# EAGLE library part TSW-128-02-S-D (library con-samtec)
THROUGH-HOLE .025" SQ POST HEADER Source: Samtec TSW.pdf
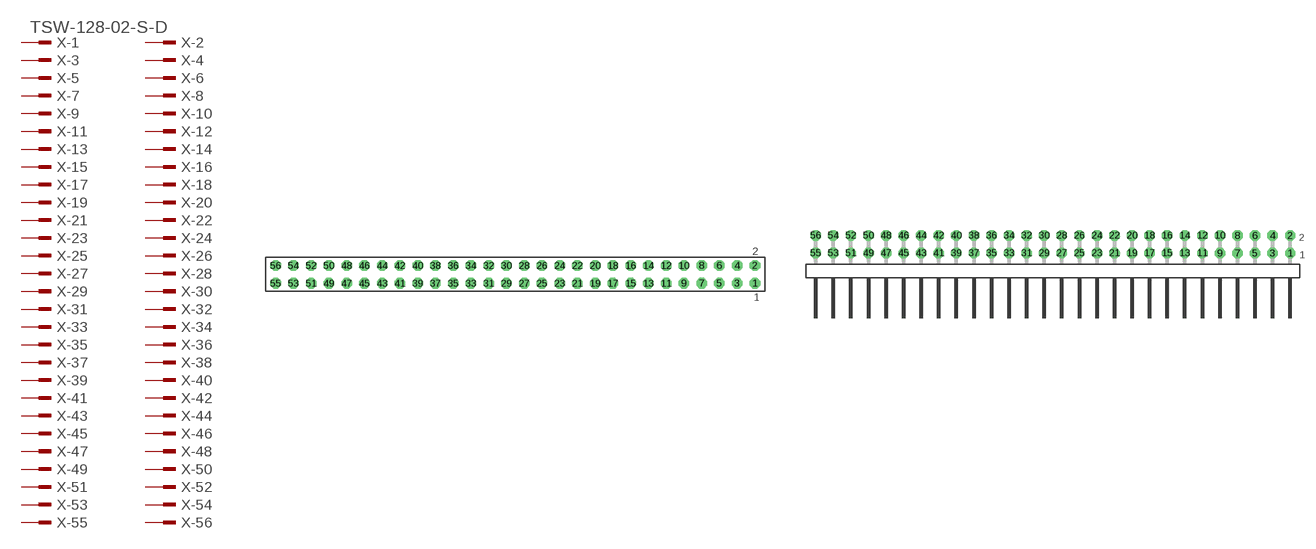
[diagram p310: symbol with the pads of TSW-128-02-S-D; footprints TSW-128-02-S-D, TSW-128-02-S-D-RA]

Designator prefix X; gates -1=MPINV -2=MPIN -3=MPIN -4=MPIN -5=MPIN -6=MPIN -7=MPIN -8=MPIN -9=MPIN -10=MPIN -11=MPIN -12=MPIN -13=MPIN -14=MPIN -15=MPIN -16=MPIN -17=MPIN -18=MPIN -19=MPIN -20=MPIN -21=MPIN -22=MPIN -23=MPIN -24=MPIN -25=MPIN -26=MPIN -27=MPIN -28=MPIN -29=MPIN -30=MPIN -31=MPIN -32=MPIN -33=MPIN -34=MPIN -35=MPIN -36=MPIN -37=MPIN -38=MPIN -39=MPIN -40=MPIN -41=MPIN -42=MPIN -43=MPIN -44=MPIN -45=MPIN -46=MPIN -47=MPIN -48=MPIN -49=MPIN -50=MPIN -51=MPIN -52=MPIN -53=MPIN -54=MPIN -55=MPIN -56=MPIN

## TSW-128-02-S-D (OC_FARNELL: unknown; OC_NEWARK: unknown)  [TSW-128-02-S-D]
1  -1:1  pas
2  -2:1  pas
3  -3:1  pas
4  -4:1  pas
5  -5:1  pas
6  -6:1  pas
7  -7:1  pas
8  -8:1  pas
9  -9:1  pas
10  -10:1  pas
11  -11:1  pas
12  -12:1  pas
13  -13:1  pas
14  -14:1  pas
15  -15:1  pas
16  -16:1  pas
17  -17:1  pas
18  -18:1  pas
19  -19:1  pas
20  -20:1  pas
21  -21:1  pas
22  -22:1  pas
23  -23:1  pas
24  -24:1  pas
25  -25:1  pas
26  -26:1  pas
27  -27:1  pas
28  -28:1  pas
29  -29:1  pas
30  -30:1  pas
31  -31:1  pas
32  -32:1  pas
33  -33:1  pas
34  -34:1  pas
35  -35:1  pas
36  -36:1  pas
37  -37:1  pas
38  -38:1  pas
39  -39:1  pas
40  -40:1  pas
41  -41:1  pas
42  -42:1  pas
43  -43:1  pas
44  -44:1  pas
45  -45:1  pas
46  -46:1  pas
47  -47:1  pas
48  -48:1  pas
49  -49:1  pas
50  -50:1  pas
51  -51:1  pas
52  -52:1  pas
53  -53:1  pas
54  -54:1  pas
55  -55:1  pas
56  -56:1  pas

## TSW-128-02-S-D-RA (OC_FARNELL: unknown; OC_NEWARK: unknown)  [TSW-128-02-S-D-RA]
Pads as for TSW-128-02-S-D

## Footprint TSW-128-02-S-D (pad centres in mm)
THROUGH-HOLE .025" SQ POST HEADER Source: Samtec TSW.pdf
drill 1 pad 1.5 octagon: 1 34.29,-1.27; 2 34.29,1.27; 3 31.75,-1.27; 4 31.75,1.27; 5 29.21,-1.27; 6 29.21,1.27; 7 26.67,-1.27; 8 26.67,1.27; 9 24.13,-1.27; 10 24.13,1.27; 11 21.59,-1.27; 12 21.59,1.27; 13 19.05,-1.27; 14 19.05,1.27; 15 16.51,-1.27; 16 16.51,1.27; 17 13.97,-1.27; 18 13.97,1.27; 19 11.43,-1.27; 20 11.43,1.27; 21 8.89,-1.27; 22 8.89,1.27; 23 6.35,-1.27; 24 6.35,1.27; 25 3.81,-1.27; 26 3.81,1.27; 27 1.27,-1.27; 28 1.27,1.27; 29 -1.27,-1.27; 30 -1.27,1.27; 31 -3.81,-1.27; 32 -3.81,1.27; 33 -6.35,-1.27; 34 -6.35,1.27; 35 -8.89,-1.27; 36 -8.89,1.27; 37 -11.43,-1.27; 38 -11.43,1.27; 39 -13.97,-1.27; 40 -13.97,1.27; 41 -16.51,-1.27; 42 -16.51,1.27; 43 -19.05,-1.27; 44 -19.05,1.27; 45 -21.59,-1.27; 46 -21.59,1.27; 47 -24.13,-1.27; 48 -24.13,1.27; 49 -26.67,-1.27; 50 -26.67,1.27; 51 -29.21,-1.27; 52 -29.21,1.27; 53 -31.75,-1.27; 54 -31.75,1.27; 55 -34.29,-1.27; 56 -34.29,1.27

## Footprint TSW-128-02-S-D-RA (pad centres in mm)
THROUGH-HOLE .025" SQ POST HEADER Source: Samtec TSW.pdf
drill 1 pad 1.5 octagon: 1 34.29,1.524; 2 34.29,4.064; 3 31.75,1.524; 4 31.75,4.064; 5 29.21,1.524; 6 29.21,4.064; 7 26.67,1.524; 8 26.67,4.064; 9 24.13,1.524; 10 24.13,4.064; 11 21.59,1.524; 12 21.59,4.064; 13 19.05,1.524; 14 19.05,4.064; 15 16.51,1.524; 16 16.51,4.064; 17 13.97,1.524; 18 13.97,4.064; 19 11.43,1.524; 20 11.43,4.064; 21 8.89,1.524; 22 8.89,4.064; 23 6.35,1.524; 24 6.35,4.064; 25 3.81,1.524; 26 3.81,4.064; 27 1.27,1.524; 28 1.27,4.064; 29 -1.27,1.524; 30 -1.27,4.064; 31 -3.81,1.524; 32 -3.81,4.064; 33 -6.35,1.524; 34 -6.35,4.064; 35 -8.89,1.524; 36 -8.89,4.064; 37 -11.43,1.524; 38 -11.43,4.064; 39 -13.97,1.524; 40 -13.97,4.064; 41 -16.51,1.524; 42 -16.51,4.064; 43 -19.05,1.524; 44 -19.05,4.064; 45 -21.59,1.524; 46 -21.59,4.064; 47 -24.13,1.524; 48 -24.13,4.064; 49 -26.67,1.524; 50 -26.67,4.064; 51 -29.21,1.524; 52 -29.21,4.064; 53 -31.75,1.524; 54 -31.75,4.064; 55 -34.29,1.524; 56 -34.29,4.064